# Altium footprint library HSBNE-MOTOR.PcbLib: 40 footprints (part 2 of 3)
Each footprint in its own frame and in the unit in brackets; x right, y up, seen from the top. Pads: shape width x height; smd on the part's side, far side on the other; paste and mask are expansions set on the pad; w line width, h text height; cw(c..) or ccw(c..) is an arc to the next point about the centre after c.
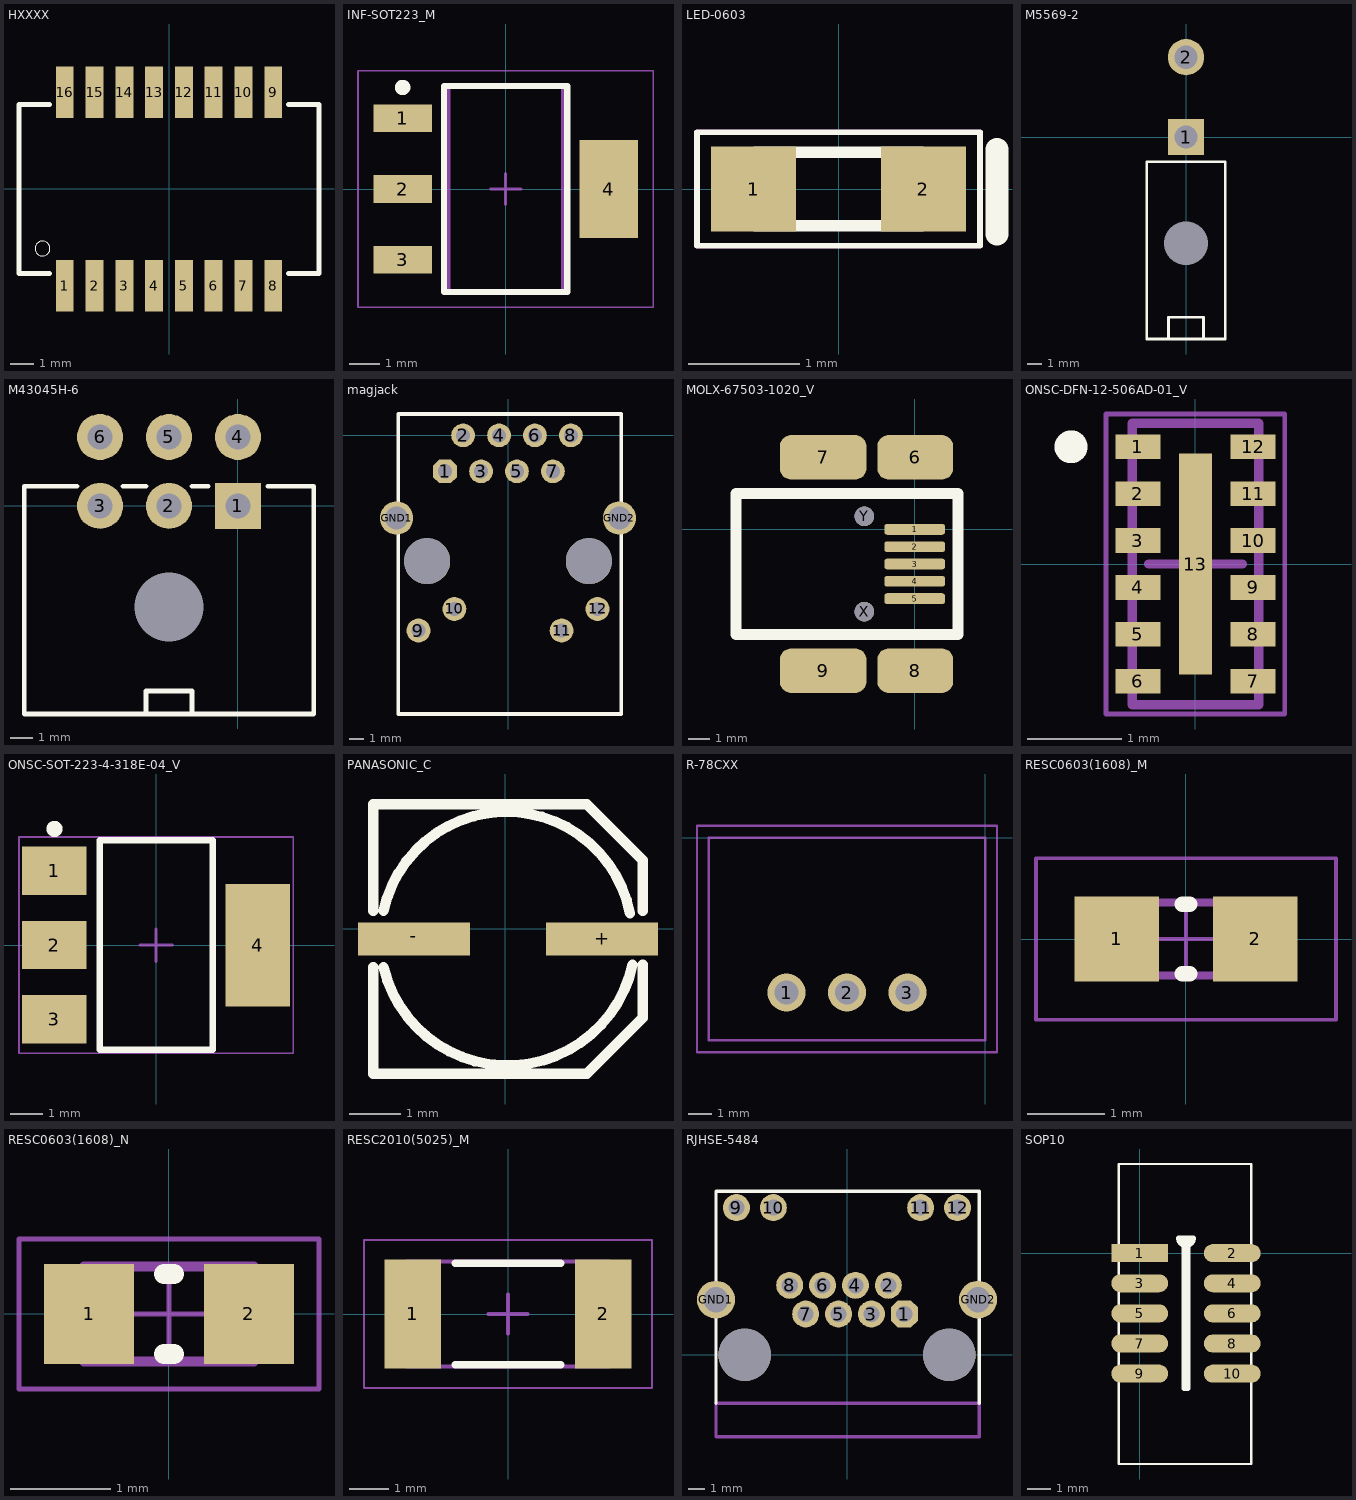
[diagram p1: the footprints below, top view; thin cyan lines are the x and y axes]

## HXXXX [mm]
pads (16):
  rect 0.76x2.2 smd: 1(-4.445,-4.128) 2(-3.175,-4.128) 3(-1.905,-4.128) 4(-0.635,-4.128) 5(0.635,-4.128) 6(1.905,-4.128) 7(3.175,-4.128) 8(4.445,-4.128) 9(4.445,4.127) 10(3.175,4.127) 11(1.905,4.127) 12(0.635,4.127) 13(-0.635,4.127) 14(-1.905,4.127) 15(-3.175,4.127) 16(-4.445,4.127)
Top Overlay:
  circle w0.008: c-5.397,-2.54 r0.318
  lines w0.203: -5.1,-3.6 -6.4,-3.6 -6.4,3.6 -5.1,3.6 ; 5.1,-3.6 6.4,-3.6 6.4,3.6 5.1,3.6
3D body: height 6, standoff 0, extent -6.375,-4.275 6.375,4.125

## INF-SOT223_M [mm] "SOT223, 4-Leads, Body 6.5x3.5mm, Pitch 2.3mm, IPC Low Density"
height 1.7
pads (4):
  rect 1.9x0.9 smd: 1(-3.35,2.3) 2(-3.35,0) 3(-3.35,-2.3)
  rect 1.9x3.2 smd: 4(3.35,0)
Top Overlay:
  circle w0.25: c-3.35,3.3 r0.125
  lines w0.2: -2,-3.35 2,-3.35 2,3.35 -2,3.35 -2,-3.35
Mechanical 13:
  lines w0.1: -1.85,-3.35 1.85,-3.35 1.85,3.35 -1.85,3.35 -1.85,-3.35
Mechanical 15:
  lines w0.05: -4.8,-3.85 4.8,-3.85 4.8,3.85 -4.8,3.85 -4.8,-3.85
  lines w0.1: -0.5,0 0.5,0 ; 0,-0.5 0,0.5
3D body: height 1.7, standoff 0.1, extent -1.85,-3.35 1.85,3.35

## LED-0603 [mil]
pads (2):
  rect 30x30 smd: 1(-30,0) 2(30,0)
Top Overlay:
  rectangle: 15,-15 30,15
  rectangle: -30,-15 -15,15
  lines w4: -20,-13 20,-13 ; -20,13 20,13
  lines w8: 56,-16 56,14
Top Overlay keep-out:
  lines w2: -50,-20 -50,20 50,20 50,-20 -50,-20

## M5569-2 [mm]
pads (3):
  rect 2.5x2.5 hole 1.6: 1(0,0)
  round 2.5 hole 1.6: 2(0,5.5)
  round 0 hole 3 unplated: A(0,-7.3)
Top Overlay:
  lines w0.2: -1.2,-13.9 -1.2,-12.4 1.2,-12.4 1.2,-13.9 ; -2.7,-13.9 2.7,-13.9 2.7,-1.7 -2.7,-1.7 -2.7,-13.9
3D body "039301020.stp": height 11.4, standoff -3.6, extent -2.72,-13.907 3.08,6.028

## M43045H-6 [mm]
pads (7):
  rect 2x2 hole 1.1: 1(0,0)
  round 2 hole 1.1: 2(-3,0) 3(-6,0) 4(0,3) 5(-3,3) 6(-6,3)
  round 0 hole 3 unplated: 7(-3,-4.4)
Top Overlay:
  lines w0.2: -7,0.85 -9.3,0.85 -9.3,-9.05 3.3,-9.05 3.3,0.85 1.3,0.85 ; -5,0.85 -4,0.85 ; -4,-9.05 -4,-8.05 -2,-8.05 -2,-9.05 ; -2,0.85 -1.3,0.85
3D body "430450600.stp": height 8.83, standoff -3.12, extent -9.575,-8.95 3.575,3.25

## magjack [mm]
pads (16):
  oct 1.676x1.676 hole 1: 1(-4.445,-2.54)
  round 1.676 hole 1: 2(-3.175,0) 3(-1.905,-2.54) 4(-0.635,0) 5(0.635,-2.54) 6(1.905,0) 7(3.175,-2.54) 8(4.445,0) 9(-6.325,-13.79) 10(-3.785,-12.27) 11(3.785,-13.79) 12(6.325,-12.27)
  round 2.355 hole 1.6: GND1(-7.875,-5.84) GND2(7.875,-5.84)
  round 3.25 hole 3.25 unplated: ""(-5.715,-8.89) ""(5.715,-8.89)
Top Overlay:
  lines w0.254: -7.75,-19.69 -7.75,1.51 8,1.51 8,-19.69 -7.75,-19.69
3D body: height 13.55, standoff 0, extent -7.747,-19.685 8.001,1.524

## MOLX-67503-1020_V [mm] "Mini USB Connector, SMT, Righer Angle"
pads (11):
  rrect50% 2.8x0.5 smd: 1(0,0) 2(0,-0.8) 3(0,-1.6) 4(0,-2.4) 5(0,-3.2)
  rrect50% 3.5x2.05 smd: 6(0.025,3.325) 8(0.025,-6.525)
  rrect50% 4x2.05 smd: 7(-4.225,3.325) 9(-4.225,-6.525)
  round 0.9 hole 0.9 unplated: X(-2.325,-3.8) Y(-2.325,0.6)
Top Overlay:
  lines w0.5: -8.25,-4.85 -8.25,1.65 2,1.65 2,-4.85 -8.25,-4.85
3D body "USB Mini B - Connector.stp": height 3.95, standoff -1, extent -8.217,-6.557 0.783,3.343

## ONSC-DFN-12-506AD-01_V [mm] "SON, 12-Leads, Body 3x1.35mm, Pitch 0.5mm, Thermal Pad 2.352x0.351mm"
height 1
pads (13):
  rect 0.479x0.265 smd mask+0.05: 1(-0.614,1.25) 2(-0.614,0.75) 3(-0.614,0.25) 4(-0.614,-0.25) 5(-0.614,-0.75) 6(-0.614,-1.25) 7(0.614,-1.25) 8(0.614,-0.75) 9(0.614,-0.25) 10(0.614,0.25) 11(0.614,0.75) 12(0.614,1.25)
  rect 0.351x2.352 smd mask+0.05: 13(0,0)
Top Overlay:
  circle w0.25: c-1.328,1.25 r0.05
Mechanical 13:
  lines w0.1: -0.675,-1.5 0.675,-1.5 0.675,1.5 -0.675,1.5 -0.675,-1.5
Mechanical 15:
  lines w0.05: -0.954,-1.6 0.954,-1.6 0.954,1.6 -0.954,1.6 -0.954,-1.6
  lines w0.1: -0.5,0 0.5,0 ; 0,-0.5 0,0.5
3D body: height 1, standoff 0, extent -0.675,-1.5 0.675,1.5

## ONSC-SOT-223-4-318E-04_V [mm] "SOT223, 4-Leads, Body 6.5x3.5mm, Pitch 2.3mm"
height 1.75
pads (4):
  rect 2x1.5 smd: 1(-3.15,2.3) 2(-3.15,0) 3(-3.15,-2.3)
  rect 2x3.8 smd: 4(3.15,0)
Top Overlay:
  circle w0.25: c-3.15,3.6 r0.125
  lines w0.2: -1.75,-3.25 1.75,-3.25 1.75,3.25 -1.75,3.25 -1.75,-3.2
Mechanical 13:
  lines w0.1: -1.75,-3.25 -1.75,3.25 1.75,3.25 1.75,-3.25 -1.75,-3.25
Mechanical 15:
  lines w0.05: -4.25,-3.35 4.25,-3.35 4.25,3.35 -4.25,3.35 -4.25,-3.35
  lines w0.1: -0.5,0 0.5,0 ; 0,-0.5 0,0.5
3D body: height 1.75, standoff 0.02, extent -1.75,-3.25 1.75,3.25

## PANASONIC_C [mm]
pads (2):
  rect 2.2x0.65 smd: +(1.9,-0.2) -(-1.8,-0.2)
Top Overlay:
  lines w0.102: -2.6,-2.85 1.6,-2.85 2.7,-1.75 ; -2.6,2.45 1.6,2.45 2.7,1.35
  lines w0.203: -2.6,-0.75 -2.6,-2.85 1.6,-2.85 2.7,-1.75 2.7,-0.7 ; -2.6,0.35 -2.6,2.45 1.6,2.45 2.7,1.35 2.7,0.35 ; -2.4,-0.75 ccw(c0.044,-0.175) 2.5,-0.7 ; -2.4,0.35 cw(c0.02,-0.175) 2.45,0.3
3D body: height 5.4, standoff 0, extent -2.455,-2.72 2.525,2.27
3D body: height 1, standoff 0, extent -2.625,-2.875 2.75,2.5

## R-78CXX [mm] "CONV DC/DC 1A 5V OUT SIP VERT"
height 10.4
pads (3):
  round 1.6 hole 1: 1(-8.34,-6.5) 2(-5.8,-6.5) 3(-3.26,-6.5)
Mechanical 13:
  lines w0.1: -11.6,-8.5 -11.6,0 0,0 0,-8.5 -11.6,-8.5
Mechanical 15:
  lines w0.1: -12.1,-9 -12.1,0.5 0.5,0.5 0.5,-9 -12.1,-9
3D body: height 13, standoff 0, extent -11.6,-8.5 0,0

## RESC0603(1608)_M [mm] "Chip Resistor, Body 1.6x0.8mm, IPC Low Density"
height 0.6
pads (2):
  rect 1.1x1.1 smd: 1(-0.9,0) 2(0.9,0)
Top Overlay:
  lines w0.2: -0.05,-0.45 0.05,-0.45 ; -0.05,0.45 0.05,0.45
Mechanical 13:
  lines w0.1: -0.85,-0.475 0.85,-0.475 0.85,0.475 -0.85,0.475 -0.85,-0.475
Mechanical 15:
  lines w0.05: -0.475,0 0.475,0 ; 0,-0.475 0,0.475 ; -1.95,-1.05 1.95,-1.05 1.95,1.05 -1.95,1.05 -1.95,-1.05
3D body: height 0.6, standoff 0, extent 0.581,-0.474 0.85,0.475
3D body: height 0.6, standoff 0, extent -0.58,-0.474 0.581,0.475
3D body: height 0.6, standoff 0, extent -0.849,-0.474 -0.58,0.475

## RESC0603(1608)_N [mm] "Chip Resistor, Body 1.6x0.8mm, IPC Medium Density"
height 0.6
pads (2):
  rect 0.9x1 smd: 1(-0.8,0) 2(0.8,0)
Top Overlay:
  lines w0.2: -0.05,-0.4 0.05,-0.4 ; -0.05,0.4 0.05,0.4
Mechanical 13:
  lines w0.1: -0.85,-0.475 0.85,-0.475 0.85,0.475 -0.85,0.475 -0.85,-0.475
Mechanical 15:
  lines w0.05: -0.475,0 0.475,0 ; 0,-0.475 0,0.475 ; -1.5,-0.75 1.5,-0.75 1.5,0.75 -1.5,0.75 -1.5,-0.75
3D body: height 0.6, standoff 0, extent -0.849,-0.474 -0.58,0.475
3D body: height 0.6, standoff 0, extent -0.58,-0.474 0.581,0.475
3D body: height 0.6, standoff 0, extent 0.581,-0.474 0.85,0.475

## RESC2010(5025)_M [mm] "Chip Resistor, Body 5.0x2.5mm, IPC Low Density"
height 0.71
pads (2):
  rect 1.45x2.8 smd: 1(-2.45,0) 2(2.45,0)
Top Overlay:
  lines w0.2: -1.35,-1.3 1.35,-1.3 ; -1.35,1.3 1.35,1.3
Mechanical 13:
  lines w0.1: -2.6,-1.35 2.6,-1.35 2.6,1.35 -2.6,1.35 -2.6,-1.35
Mechanical 15:
  lines w0.05: -3.7,-1.9 3.7,-1.9 3.7,1.9 -3.7,1.9 -3.7,-1.9
  lines w0.1: -0.5,0 0.5,0 ; 0,-0.5 0,0.5
3D body: height 0.71, standoff 0, extent 1.98,-1.35 2.6,1.35
3D body: height 0.71, standoff 0, extent -1.98,-1.35 1.98,1.35
3D body: height 0.71, standoff 0, extent -2.6,-1.35 -1.98,1.35

## RJHSE-5484 [mm]
pads (16):
  oct 1.676x1.676 hole 1: 1(3.555,2.54)
  round 1.676 hole 1: 2(2.565,4.32) 3(1.515,2.54) 4(0.525,4.32) 5(-0.525,2.54) 6(-1.515,4.32) 7(-2.565,2.54) 8(-3.555,4.32) 9(-6.86,9.14) 10(-4.57,9.14) 11(4.57,9.14) 12(6.86,9.14)
  round 2.355 hole 1.57: GND1(-8.13,3.43) GND2(8.13,3.43)
  round 3.25 hole 3.25 unplated: ""(-6.35,0) ""(6.35,0)
Top Overlay:
  lines w0.203: -8.13,-3 -8.13,10.16 8.2,10.16 8.2,-3
Mechanical 1:
  lines w0.203: -8.13,-5.08 8.2,-5.08 8.2,-3 -8.13,-3 -8.13,-5.08
3D body: height 13.46, standoff 0, extent -8.13,-5.08 8.2,10.15

## SOP10 [mm]
pads (10):
  rect 2.4x0.76 smd: 1(0,0)
  oval 2.4x0.76 smd: 2(3.9,0) 3(0,-1.27) 4(3.9,-1.27) 5(0,-2.54) 6(3.9,-2.54) 7(0,-3.81) 8(3.9,-3.81) 9(0,-5.08) 10(3.9,-5.08)
Top Overlay:
  lines w0.1: -0.889,-8.89 4.699,-8.89 4.699,3.76 -0.889,3.76 -0.889,-8.89
  lines w0.2: 1.632,0.635 ccw(c1.95,0.635) 2.267,0.635 1.865,0.635 1.865,-5.715 2.035,-5.715 2.035,0.635 1.632,0.635
3D body "Samtec-TFM-105-02-X-D.STEP": height 5.59, standoff -0.15, extent -1.143,-7.239 4.826,2.286